# Altium footprint library PcbLib1.PcbLib: 17 footprints (part 1 of 2)
Each footprint in its own frame and in the unit in brackets; x right, y up, seen from the top. Pads: shape width x height; smd on the part's side, far side on the other; paste and mask are expansions set on the pad; w line width, h text height; cw(c..) or ccw(c..) is an arc to the next point about the centre after c.
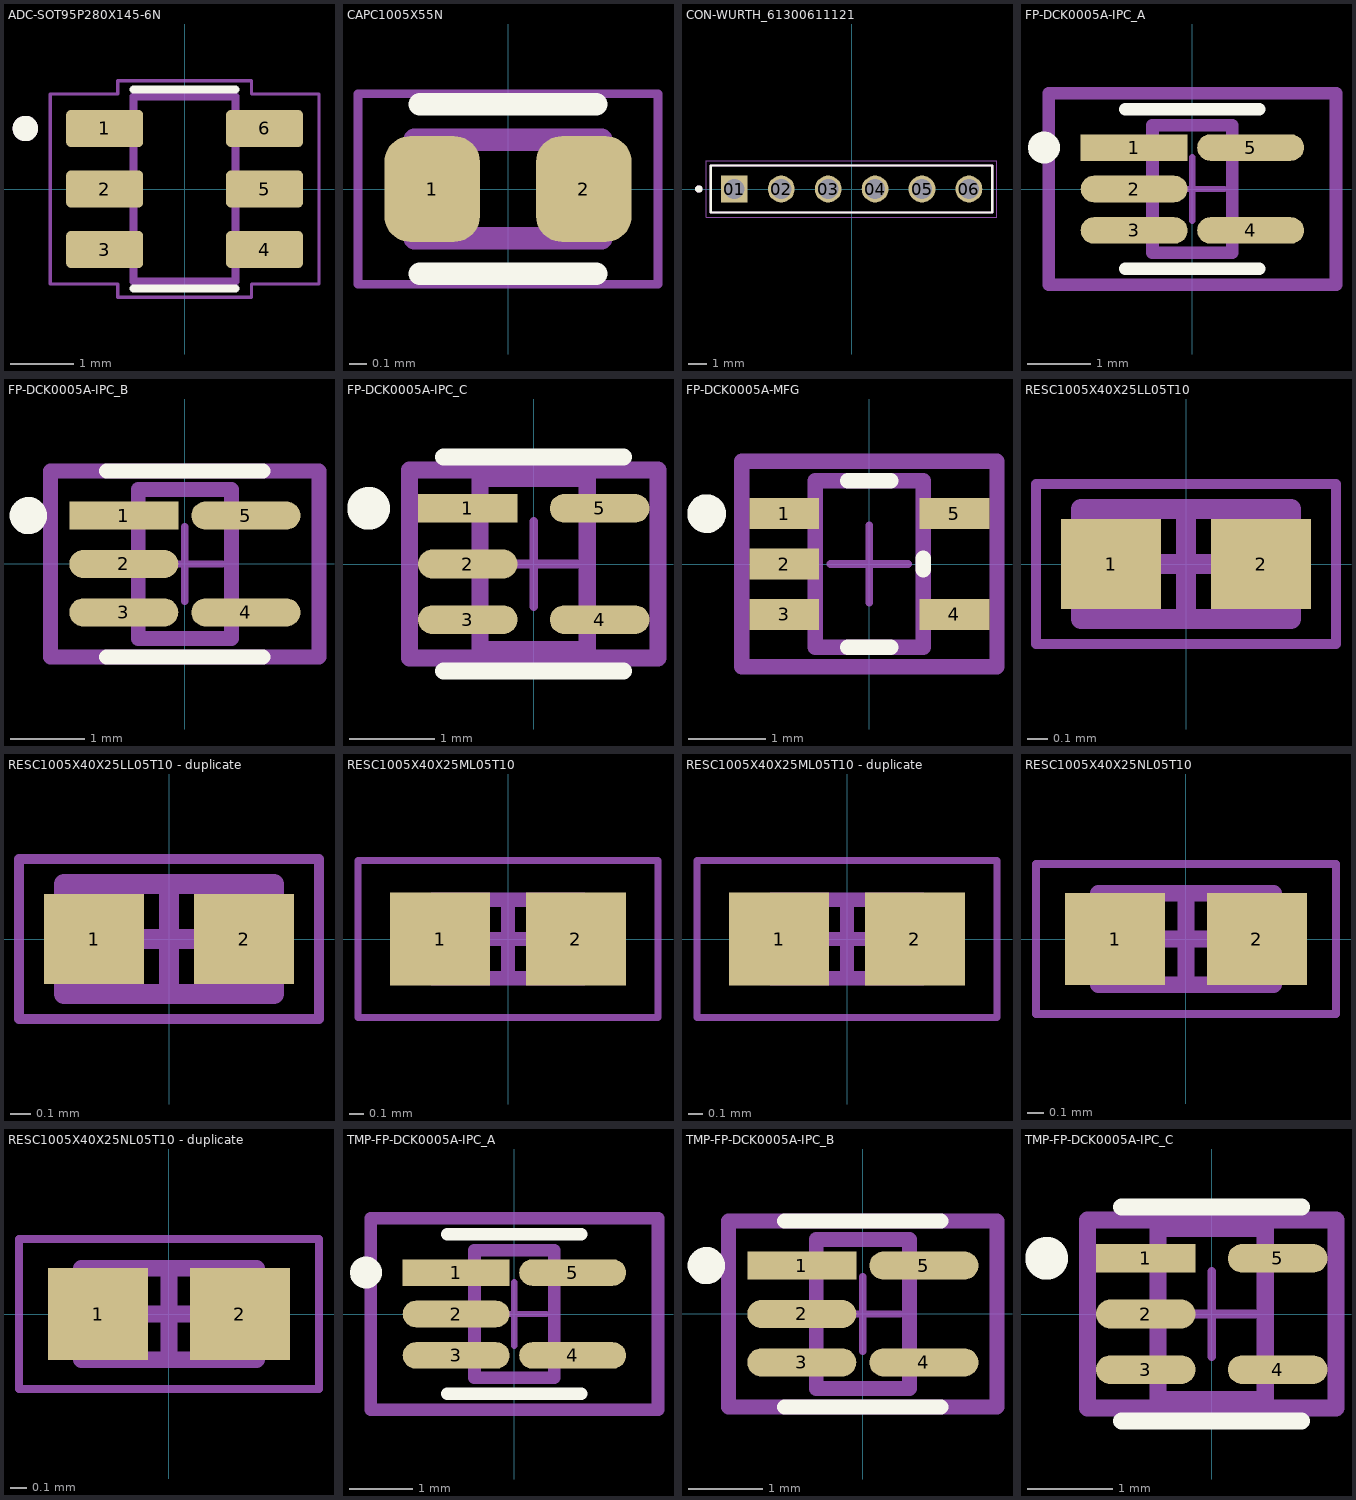
[diagram p0: the footprints below, top view; thin cyan lines are the x and y axes]

## ADC-SOT95P280X145-6N [mm]
pads (6):
  rrect25% 1.21x0.58 smd: 1(-1.255,0.95) 2(-1.255,0) 3(-1.255,-0.95) 4(1.255,-0.95) 5(1.255,0) 6(1.255,0.95)
Top Overlay:
  circle w0.2: c-2.5,0.95 r0.1
  lines w0.127: -0.8,-1.56 0.8,-1.56 ; -0.8,1.56 0.8,1.56
Mechanical 13:
  circle w0.2: c-2.5,0.95 r0.1
  lines w0.127: -0.8,-1.45 0.8,-1.45 0.8,1.45 -0.8,1.45 -0.8,-1.45
Mechanical 15:
  lines w0.05: -2.11,-1.49 -1.05,-1.49 -1.05,-1.7 1.05,-1.7 1.05,-1.49 2.11,-1.49 2.11,1.49 1.05,1.49 1.05,1.7 -1.05,1.7 -1.05,1.49 -2.11,1.49 -2.11,-1.49
3D body "ADC101S021CIMF.step": height 1.31, standoff -0.14, extent -1.4,-1.45 1.4,1.45

## CAPC1005X55N [mm]
pads (2):
  rrect53% 0.54x0.6 smd: 1(-0.43,0) 2(0.43,0)
Top Overlay:
  lines w0.127: -0.5,-0.48 0.5,-0.48 ; -0.5,0.48 0.5,0.48
Mechanical 13:
  lines w0.127: -0.53,-0.28 0.53,-0.28 0.53,0.28 -0.53,0.28 -0.53,-0.28
Mechanical 15:
  lines w0.05: -0.85,-0.54 0.85,-0.54 0.85,0.54 -0.85,0.54 -0.85,-0.54
3D body "CC0402ZRY5V7BB104.step": height 0.51, standoff 0.01, extent -0.5,-0.279 0.5,0.271

## CON-WURTH_61300611121 [mm]
pads (6):
  rect 1.45x1.45 / inner round 1.45 / far side rect 1.45x1.45 hole 1.1: 01(-6.35,0)
  round 1.45 hole 1.1: 02(-3.81,0) 03(-1.27,0) 04(1.27,0) 05(3.81,0) 06(6.35,0)
Top Overlay:
  circle w0.2: c-8.27,0 r0.1
  lines w0.127: -7.62,-1.27 7.62,-1.27 7.62,1.27 -7.62,1.27 -7.62,-1.27
Mechanical 13:
  circle w0.2: c-8.27,0 r0.1
  lines w0.127: -7.62,-1.27 7.62,-1.27 7.62,1.27 -7.62,1.27 -7.62,-1.27
Mechanical 15:
  lines w0.05: -7.87,-1.52 7.87,-1.52 7.87,1.52 -7.87,1.52 -7.87,-1.52
3D body "61300611121.stp": height 8.55, standoff -2.99, extent -7.62,-1.27 7.62,1.27

## FP-DCK0005A-IPC_A [mm]
pads (5):
  rect 1.677x0.416 smd paste+0 mask+0: 1(-0.914,0.65)
  rrect100% 1.677x0.416 smd paste+0 mask+0: 2(-0.914,0) 3(-0.914,-0.65) 4(0.914,-0.65) 5(0.914,0.65)
Top Overlay:
  circle w0.25: c-2.327,0.65 r0.125
  lines w0.2: -1.05,-1.25 1.05,-1.25 ; -1.05,1.25 1.05,1.25
Top 3D Body:
  lines w0.2: -0.625,-1 0.625,-1 0.625,1 -0.625,1 -0.625,-1
Top Courtyard:
  lines w0.2: -2.252,-1.5 2.252,-1.5 2.252,1.5 -2.252,1.5 -2.252,-1.5
Top Assembly:
  lines w0.2: -2.252,-1.5 2.252,-1.5 2.252,1.5 -2.252,1.5 -2.252,-1.5
  text ".Designator" at 0,0.188 h1
Top Component Center:
  lines w0.1: -0.5,0 0.5,0 ; 0,-0.5 0,0.5
3D body "LM321LVIDCKR.step": height 1.11, standoff -0.13, extent -1.124,-0.975 1.049,1.025

## FP-DCK0005A-IPC_B [mm]
pads (5):
  rect 1.464x0.376 smd paste+0 mask+0: 1(-0.82,0.65)
  rrect100% 1.464x0.376 smd paste+0 mask+0: 2(-0.82,0) 3(-0.82,-0.65) 4(0.82,-0.65) 5(0.82,0.65)
Top Overlay:
  circle w0.25: c-2.102,0.65 r0.125
  lines w0.2: -1.05,-1.25 1.05,-1.25 ; -1.05,1.25 1.05,1.25
Top 3D Body:
  lines w0.2: -0.625,-1 0.625,-1 0.625,1 -0.625,1 -0.625,-1
Top Courtyard:
  lines w0.2: -1.802,-1.25 1.802,-1.25 1.802,1.25 -1.802,1.25 -1.802,-1.25
Top Assembly:
  lines w0.2: -1.802,-1.25 1.802,-1.25 1.802,1.25 -1.802,1.25 -1.802,-1.25
  text ".Designator" at 0,0.188 h1
Top Component Center:
  lines w0.1: -0.5,0 0.5,0 ; 0,-0.5 0,0.5
3D body "LM321LVIDCKR.step": height 1.11, standoff -0.13, extent -1.111,-0.991 1.061,1.009

## FP-DCK0005A-IPC_C [mm]
pads (5):
  rect 1.164x0.336 smd paste+0 mask+0: 1(-0.77,0.65)
  rrect100% 1.164x0.336 smd paste+0 mask+0: 2(-0.77,0) 3(-0.77,-0.65) 4(0.77,-0.65) 5(0.77,0.65)
Top Overlay:
  circle w0.25: c-1.927,0.65 r0.125
  lines w0.2: -1.05,-1.25 1.05,-1.25 ; -1.05,1.25 1.05,1.25
Top 3D Body:
  lines w0.2: -0.625,-1 0.625,-1 0.625,1 -0.625,1 -0.625,-1
Top Courtyard:
  lines w0.2: -1.452,-1.1 1.452,-1.1 1.452,1.1 -1.452,1.1 -1.452,-1.1
Top Assembly:
  lines w0.2: -1.452,-1.1 1.452,-1.1 1.452,1.1 -1.452,1.1 -1.452,-1.1
  text ".Designator" at 0,0.188 h1
Top Component Center:
  lines w0.1: -0.5,0 0.5,0 ; 0,-0.5 0,0.5
3D body "LM321LVIDCKR.step": height 1.11, standoff -0.13, extent -1.226,-1 0.946,1

## FP-DCK0005A-MFG [mm]
pads (5):
  rect 0.9x0.4 smd paste-1000 mask+0: 1(-1.1,0.65) 2(-1.1,0) 3(-1.1,-0.65) 4(1.1,-0.65) 5(1.1,0.65)
Top Overlay:
  circle w0.25: c-2.1,0.65 r0.125
  lines w0.2: -0.275,-1.075 0.275,-1.075 ; -0.275,1.075 0.275,1.075 ; 0.7,-0.075 0.7,0.075
Top Paste:
  rectangle: -1.525,0.475 -0.675,0.825
  rectangle: -1.525,-0.175 -0.675,0.175
  rectangle: -1.525,-0.825 -0.675,-0.475
  rectangle: 0.675,0.475 1.525,0.825
  rectangle: 0.675,-0.825 1.525,-0.475
Top 3D Body:
  lines w0.2: -0.7,-1.075 -0.7,1.075 0.7,1.075 0.7,-1.075 -0.7,-1.075
Top Courtyard:
  lines w0.2: -1.65,-1.325 -1.65,1.325 1.65,1.325 1.65,-1.325 -1.65,-1.325
Top Assembly:
  lines w0.2: -1.65,-1.325 -1.65,1.325 1.65,1.325 1.65,-1.325 -1.65,-1.325
  text ".Designator" at 0,0 h1
Top Component Center:
  lines w0.1: -0.5,0 0.5,0 ; 0,-0.5 0,0.5
3D body "IC_Texas_Instruments_SN74AHC1G04DCKR_eec.STEP": height 0.25, standoff 0, extent -1.65,-1.325 1.65,1.325

## RESC1005X40X25LL05T10 [mm] "Chip Resistor, 2-Leads, Body 1.00x0.50mm, IPC High Density"
height 0.4
pads (2):
  rect 0.5x0.45 smd: 1(-0.375,0) 2(0.375,0)
Mechanical 13:
  lines w0.1: -0.525,-0.275 -0.525,0.275 0.525,0.275 0.525,-0.275 -0.525,-0.275
Mechanical 15:
  lines w0.05: -0.75,-0.4 -0.75,0.4 0.75,0.4 0.75,-0.4 -0.75,-0.4
  lines w0.1: -0.275,0 0.275,0 ; 0,-0.275 0,0.275
3D body: height 0.4, standoff 0, extent -0.275,-0.275 0.275,0.275
3D body: height 0.4, standoff 0, extent -0.525,-0.275 -0.275,0.275
3D body: height 0.4, standoff 0, extent 0.275,-0.275 0.525,0.275

## RESC1005X40X25LL05T10 - duplicate [mm] "Chip Resistor, 2-Leads, Body 1.00x0.50mm, IPC High Density"
height 0.4
pads (2):
  rect 0.5x0.45 smd: 1(-0.375,0) 2(0.375,0)
Mechanical 13:
  lines w0.1: -0.525,-0.275 0.525,-0.275 0.525,0.275 -0.525,0.275 -0.525,-0.275
Mechanical 15:
  lines w0.05: -0.75,-0.4 0.75,-0.4 0.75,0.4 -0.75,0.4 -0.75,-0.4
  lines w0.1: -0.275,0 0.275,0 ; 0,-0.275 0,0.275
3D body: height 0.4, standoff 0, extent 0.275,-0.275 0.525,0.275
3D body: height 0.4, standoff 0, extent -0.525,-0.275 -0.275,0.275
3D body: height 0.4, standoff 0, extent -0.275,-0.275 0.275,0.275

## RESC1005X40X25ML05T10 [mm] "Chip Resistor, 2-Leads, Body 1.00x0.50mm, IPC Low Density"
height 0.4
pads (2):
  rect 0.7x0.65 smd: 1(-0.475,0) 2(0.475,0)
Mechanical 13:
  lines w0.1: -0.525,-0.275 -0.525,0.275 0.525,0.275 0.525,-0.275 -0.525,-0.275
Mechanical 15:
  lines w0.05: -1.05,-0.55 -1.05,0.55 1.05,0.55 1.05,-0.55 -1.05,-0.55
  lines w0.1: -0.275,0 0.275,0 ; 0,-0.275 0,0.275
3D body: height 0.4, standoff 0, extent -0.275,-0.275 0.275,0.275
3D body: height 0.4, standoff 0, extent -0.525,-0.275 -0.275,0.275
3D body: height 0.4, standoff 0, extent 0.275,-0.275 0.525,0.275

## RESC1005X40X25ML05T10 - duplicate [mm] "Chip Resistor, 2-Leads, Body 1.00x0.50mm, IPC Low Density"
height 0.4
pads (2):
  rect 0.7x0.65 smd: 1(-0.475,0) 2(0.475,0)
Mechanical 13:
  lines w0.1: -0.525,-0.275 -0.525,0.275 0.525,0.275 0.525,-0.275 -0.525,-0.275
Mechanical 15:
  lines w0.05: -1.05,-0.55 -1.05,0.55 1.05,0.55 1.05,-0.55 -1.05,-0.55
  lines w0.1: -0.275,0 0.275,0 ; 0,-0.275 0,0.275
3D body: height 0.4, standoff 0, extent -0.275,-0.275 0.275,0.275
3D body: height 0.4, standoff 0, extent -0.525,-0.275 -0.275,0.275
3D body: height 0.4, standoff 0, extent 0.275,-0.275 0.525,0.275

## RESC1005X40X25NL05T10 [mm] "Chip Resistor, 2-Leads, Body 1.00x0.50mm, IPC Medium Density"
height 0.4
pads (2):
  rect 0.6x0.55 smd: 1(-0.425,0) 2(0.425,0)
Mechanical 13:
  lines w0.1: -0.525,-0.275 0.525,-0.275 0.525,0.275 -0.525,0.275 -0.525,-0.275
Mechanical 15:
  lines w0.05: -0.9,-0.45 0.9,-0.45 0.9,0.45 -0.9,0.45 -0.9,-0.45
  lines w0.1: -0.275,0 0.275,0 ; 0,-0.275 0,0.275
3D body: height 0.4, standoff 0, extent 0.275,-0.275 0.525,0.275
3D body: height 0.4, standoff 0, extent -0.525,-0.275 -0.275,0.275
3D body: height 0.4, standoff 0, extent -0.275,-0.275 0.275,0.275

## RESC1005X40X25NL05T10 - duplicate [mm] "Chip Resistor, 2-Leads, Body 1.00x0.50mm, IPC Medium Density"
height 0.4
pads (2):
  rect 0.6x0.55 smd: 1(-0.425,0) 2(0.425,0)
Mechanical 13:
  lines w0.1: -0.525,-0.275 -0.525,0.275 0.525,0.275 0.525,-0.275 -0.525,-0.275
Mechanical 15:
  lines w0.05: -0.9,-0.45 -0.9,0.45 0.9,0.45 0.9,-0.45 -0.9,-0.45
  lines w0.1: -0.275,0 0.275,0 ; 0,-0.275 0,0.275
3D body: height 0.4, standoff 0, extent -0.275,-0.275 0.275,0.275
3D body: height 0.4, standoff 0, extent -0.525,-0.275 -0.275,0.275
3D body: height 0.4, standoff 0, extent 0.275,-0.275 0.525,0.275

## TMP-FP-DCK0005A-IPC_A [mm]
pads (5):
  rect 1.677x0.416 smd paste+0 mask+0: 1(-0.914,0.65)
  rrect100% 1.677x0.416 smd paste+0 mask+0: 2(-0.914,0) 3(-0.914,-0.65) 4(0.914,-0.65) 5(0.914,0.65)
Top Overlay:
  circle w0.25: c-2.327,0.65 r0.125
  lines w0.2: -1.05,-1.25 1.05,-1.25 ; -1.05,1.25 1.05,1.25
Top 3D Body:
  lines w0.2: -0.625,-1 -0.625,1 0.625,1 0.625,-1 -0.625,-1
Top Courtyard:
  lines w0.2: -2.252,-1.5 -2.252,1.5 2.252,1.5 2.252,-1.5 -2.252,-1.5
Top Assembly:
  lines w0.2: -2.252,-1.5 -2.252,1.5 2.252,1.5 2.252,-1.5 -2.252,-1.5
  text ".Designator" at 0,0 h1
Top Component Center:
  lines w0.1: -0.5,0 0.5,0 ; 0,-0.5 0,0.5
3D body "IC_Texas_Instruments_SN74AUC1G125DCKR_eec.STEP": height 0.25, standoff 0, extent -2.252,-1.5 2.252,1.5

## TMP-FP-DCK0005A-IPC_B [mm]
pads (5):
  rect 1.464x0.376 smd paste+0 mask+0: 1(-0.82,0.65)
  rrect100% 1.464x0.376 smd paste+0 mask+0: 2(-0.82,0) 3(-0.82,-0.65) 4(0.82,-0.65) 5(0.82,0.65)
Top Overlay:
  circle w0.25: c-2.102,0.65 r0.125
  lines w0.2: -1.05,-1.25 1.05,-1.25 ; -1.05,1.25 1.05,1.25
Top 3D Body:
  lines w0.2: -0.625,-1 -0.625,1 0.625,1 0.625,-1 -0.625,-1
Top Courtyard:
  lines w0.2: -1.802,-1.25 -1.802,1.25 1.802,1.25 1.802,-1.25 -1.802,-1.25
Top Assembly:
  lines w0.2: -1.802,-1.25 -1.802,1.25 1.802,1.25 1.802,-1.25 -1.802,-1.25
  text ".Designator" at 0,0 h1
Top Component Center:
  lines w0.1: -0.5,0 0.5,0 ; 0,-0.5 0,0.5
3D body "IC_Texas_Instruments_SN74AUC1G125DCKR_eec.STEP": height 0.25, standoff 0, extent -1.802,-1.25 1.802,1.25

## TMP-FP-DCK0005A-IPC_C [mm]
pads (5):
  rect 1.164x0.336 smd paste+0 mask+0: 1(-0.77,0.65)
  rrect100% 1.164x0.336 smd paste+0 mask+0: 2(-0.77,0) 3(-0.77,-0.65) 4(0.77,-0.65) 5(0.77,0.65)
Top Overlay:
  circle w0.25: c-1.927,0.65 r0.125
  lines w0.2: -1.05,-1.25 1.05,-1.25 ; -1.05,1.25 1.05,1.25
Top 3D Body:
  lines w0.2: -0.625,-1 -0.625,1 0.625,1 0.625,-1 -0.625,-1
Top Courtyard:
  lines w0.2: -1.452,-1.1 -1.452,1.1 1.452,1.1 1.452,-1.1 -1.452,-1.1
Top Assembly:
  lines w0.2: -1.452,-1.1 -1.452,1.1 1.452,1.1 1.452,-1.1 -1.452,-1.1
  text ".Designator" at 0,0 h1
Top Component Center:
  lines w0.1: -0.5,0 0.5,0 ; 0,-0.5 0,0.5
3D body "IC_Texas_Instruments_SN74AUC1G125DCKR_eec.STEP": height 0.25, standoff 0, extent -1.452,-1.1 1.452,1.1